# Altium footprint library BUCK.PcbLib: 3 footprints
Each footprint in its own frame and in the unit in brackets; x right, y up, seen from the top. Pads: shape width x height; smd on the part's side, far side on the other; paste and mask are expansions set on the pad; w line width, h text height; cw(c..) or ccw(c..) is an arc to the next point about the centre after c.
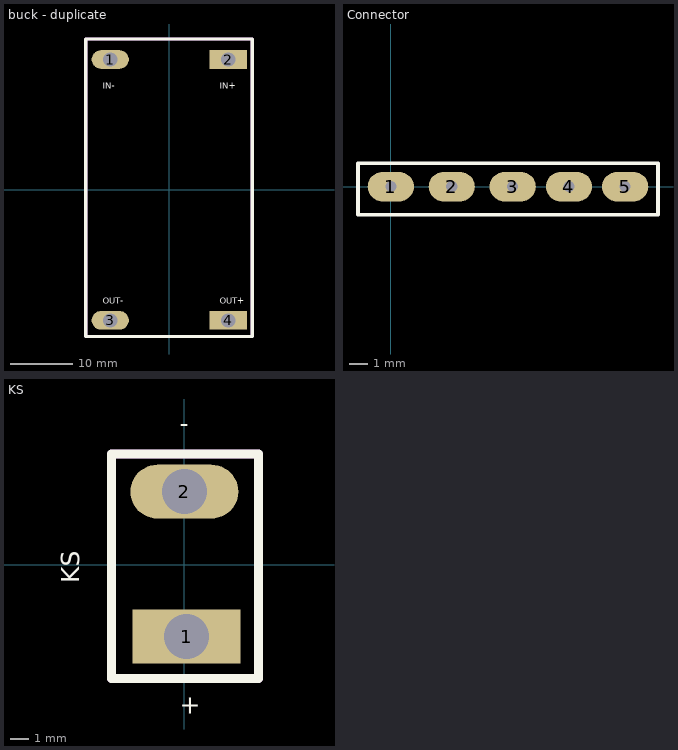
[diagram p0: the footprints below, top view; thin cyan lines are the x and y axes]

## buck - duplicate [mm]
pads (4):
  oval 6x3 hole 2.286: 1(-9.5,21) 3(-9.5,-21)
  rect 6x3 hole 2.286: 2(9.5,21) 4(9.5,-21)
Top Overlay:
  lines w0.5: -13.437,-23.577 13.36,-23.577 13.36,24.302 -13.437,24.302 -13.437,-23.577
  text "IN+" at 8.128,16.256 h1.02
  text "IN-" at -10.668,16.256 h1.02
  text "OUT+" at 8.128,-18.288 h1.02
  text "OUT-" at -10.668,-18.288 h1.02
Mechanical 1:
  lines w0.5: -13.437,-23.577 13.36,-23.577 13.36,24.302 -13.437,24.302 -13.437,-23.577
  text ".Designator" at 0.508,-2.709 h1.02

## Connector [mm]
pads (5):
  oval 2.5x1.6 hole 0.6: 1(0,0) 2(3.302,0) 3(6.604,0) 4(9.652,0) 5(12.7,0)
Top Overlay:
  lines w0.2: -1.778,-1.524 -1.778,1.27 ; -1.778,-1.524 -1.778,1.27 ; -1.778,-1.524 14.478,-1.524 ; -1.778,-1.524 14.478,-1.524 ; -1.778,1.27 14.478,1.27 ; -1.778,1.27 14.478,1.27 ; 14.478,-1.524 14.478,1.27 ; 14.478,-1.524 14.478,1.27
Mechanical 1:
  text ".Designator" at 5.842,-0.677 h1.02

## KS [mm]
pads (2):
  rect 6x3 hole 2.5: 1(0.127,-4)
  oval 6x3 hole 2.5: 2(0,4.064)
Top Overlay:
  lines w0.5: -4.064,-6.334 -4.064,6.159 4.135,6.159 4.135,-6.334 -4.064,-6.334
  text "+" at -0.254,-8.297 h1.02
  text "-" at -0.254,7.366 h1.02
  text "KS" at -5.842,-1.016 h1.02
Mechanical 1:
  lines w0.5: -4.064,-6.334 -4.064,6.159 4.135,6.159 4.135,-6.334 -4.064,-6.334
  text ".Designator" at -0.762,0.085 h1.02